# Altium integrated library LD035A331KAB2A.IntLib: 1 symbol
Pins are listed as number, name and electrical type; pins without a type are passive.

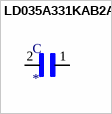
[diagram p0: symbol LD035A331KAB2A]

## LD035A331KAB2A
designator C
Ceramic Capacitor; MF: AVX; MP: LD035A331KAB2A; Package: 0603 AVX; Value: *; Availability: Unavailable; SnapEDA_Link: https://www.snapeda.com/parts/LD035A331KAB2A/AVX/view-part/2030602/?ref=snap; Price: None
footprint CAPC1608X90
pins: 1, 2